# Altium footprint library TCMT4100.PcbLib: 1 footprints
Each footprint in its own frame and in the unit in brackets; x right, y up, seen from the top. Pads: shape width x height; smd on the part's side, far side on the other; paste and mask are expansions set on the pad; w line width, h text height; cw(c..) or ccw(c..) is an arc to the next point about the centre after c.
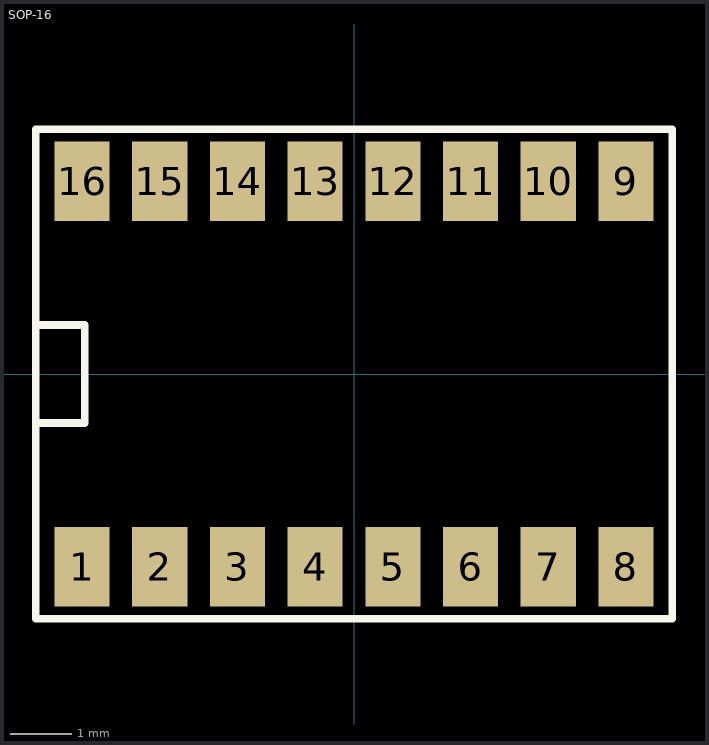
[diagram p0: the footprint, top view; thin cyan lines are the x and y axes]

## SOP-16 [mm]
pads (16):
  rect 0.9x1.3 smd: 1(-4.445,-3.15) 2(-3.175,-3.15) 3(-1.905,-3.15) 4(-0.635,-3.15) 5(0.635,-3.15) 6(1.905,-3.15) 7(3.175,-3.15) 8(4.445,-3.15) 9(4.445,3.15) 10(3.175,3.15) 11(1.905,3.15) 12(0.635,3.15) 13(-0.635,3.15) 14(-1.905,3.15) 15(-3.175,3.15) 16(-4.445,3.15)
Top Overlay:
  lines w0.127: -5.2,-0.8 -4.4,-0.8 -4.4,0.8 -5.2,0.8 ; -5.2,-0.8 -5.2,0.8 ; -5.2,-0.8 -5.2,-4 5.2,-4 5.2,4 -5.2,4 -5.2,3.8 -5.2,0.8